# EAGLE library part KK_HEADER_16V_KEN (library EW_00_Ken)
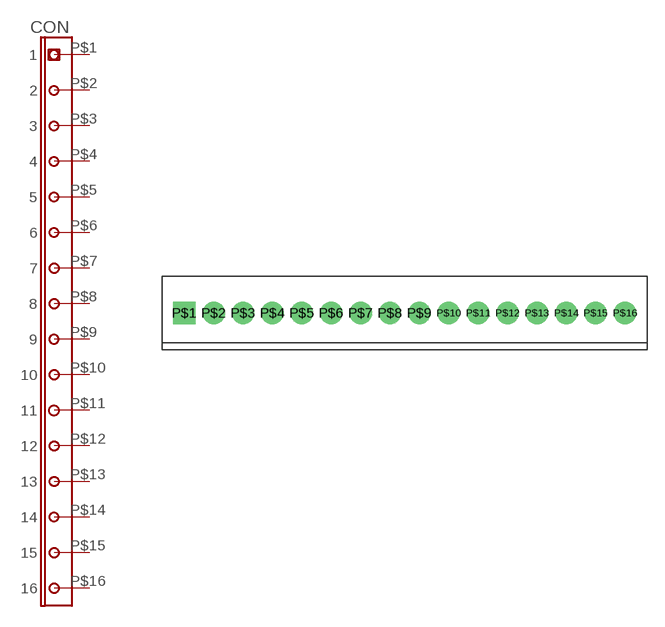
[diagram p6: symbol with the pads of KK_HEADER_16V_KEN; footprint KK_HEADER_16V_KEN]

Designator prefix CON

## KK_HEADER_16V_KEN  [KK_HEADER_16V_KEN]
P$1  1
P$2  2
P$3  3
P$4  4
P$5  5
P$6  6
P$7  7
P$8  8
P$9  9
P$10  10
P$11  11
P$12  12
P$13  13
P$14  14
P$15  15
P$16  16

## Footprint KK_HEADER_16V_KEN (pad centres in mm)
drill 1.2 pad 1.93 square: P$1 -6.35,0
drill 1.2 pad 1.93: P$2 -3.81,0; P$3 -1.27,0; P$4 1.27,0; P$5 3.81,0; P$6 6.35,0; P$7 8.89,0; P$8 11.43,0; P$9 13.97,0; P$10 16.51,0; P$11 19.05,0; P$12 21.59,0; P$13 24.13,0; P$14 26.67,0; P$15 29.21,0; P$16 31.75,0